# EAGLE library part 1X7_HEADER (library CONNECTORs)
A 1 row, 7 column, 7 pin 0.1" header.
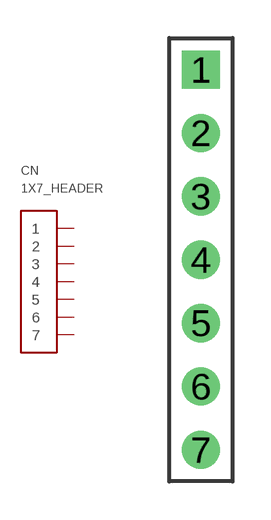
[diagram p4: symbol with the pads of 7PIN_HEADER; footprint 7PIN_HEADER]

Designator prefix CN

## 1X7_HEADER  [7PIN_HEADER]
1  1
2  2
3  3
4  4
5  5
6  6
7  7

## Footprint 7PIN_HEADER (pad centres in mm)
drill 1 pad 1.5 square: 1 0,7.52
drill 1 pad 1.5: 2 0,5.02; 3 0,2.52; 4 0,0.02; 5 0,-2.48; 6 0,-4.98; 7 0,-7.48